# Altium footprint library BAT547F.PcbLib: 2 footprints
Each footprint in its own frame and in the unit in brackets; x right, y up, seen from the top. Pads: shape width x height; smd on the part's side, far side on the other; paste and mask are expansions set on the pad; w line width, h text height; cw(c..) or ccw(c..) is an arc to the next point about the centre after c.
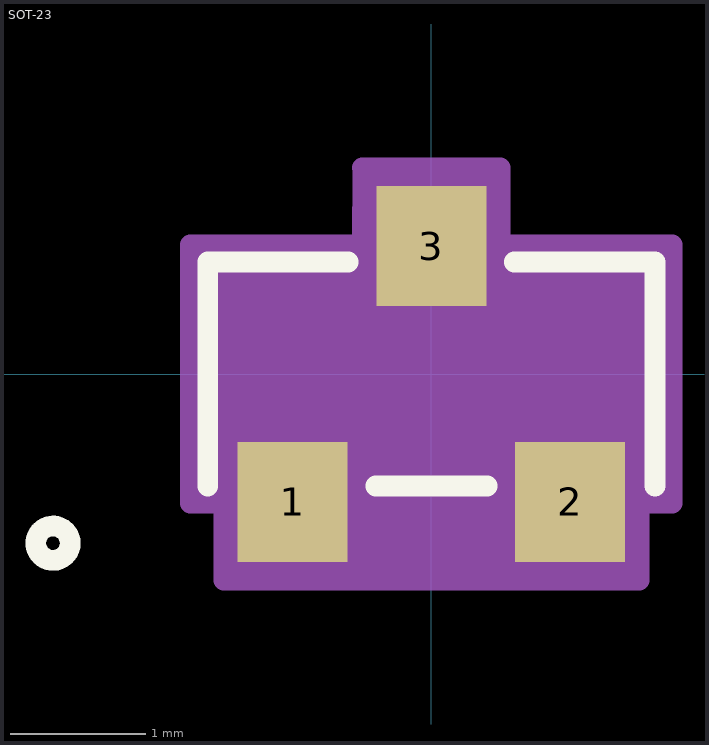
[diagram p0: the footprints below, top view; thin cyan lines are the x and y axes]

## PCBComponent_1 [mil]

## SOT-23 [mil]
pads (3):
  rect 32x35 smd paste+0 mask+0: 1(-40.35,-37.2) 2(40.35,-37.2) 3(0,37.2)
Top Overlay:
  circle w6: c-110.04,-49.21 r5
  lines w6: -65.04,-32.56 -65.04,32.56 -24.14,32.56 ; -16.21,-32.56 16.21,-32.56 ; 24.14,32.56 65.04,32.56 65.04,-32.56
Mechanical 13:
  circle w0: c-50.04,-17.56 r5
  lines w1: -60.04,-27.56 60.04,-27.56 60.04,27.56 -60.04,27.56 -60.04,-27.56 ; -50.39,-49.21 -50.39,-27.56 -30.32,-27.56 -30.32,-49.21 -50.39,-49.21 ; -10.04,27.56 10.04,27.56 10.04,49.21 -10.04,49.21 -10.04,27.56 ; 30.32,-49.21 30.32,-27.56 50.39,-27.56 50.39,-49.21 30.32,-49.21
Mechanical 15:
  region: -70.04,-37.56 -70.04,37.56 -20.04,37.56 -20.04,60 20,60 20.04,37.56 70.04,37.56 70.04,-37.56 60.39,-37.56 60.39,-60 -60.39,-60 -60.39,-37.56
  region: 60.04,-27.56 -60.04,-27.56 -60.04,27.56 60.04,27.56
  lines w6: -60.39,-60 -60.39,-37.56 -70.04,-37.56 -70.04,37.56 -20.04,37.56 -20,60 ; -60,-60 60,-60 ; -20.04,60 20.04,60 20.04,37.56 70.04,37.56 70.04,-37.56 60.39,-37.56 60.39,-60
3D body: height 10, standoff 0, extent 0,0 10,10